# Altium footprint library 618 0xx 325 223.PcbLib: 4 footprints
Each footprint in its own frame and in the unit in brackets; x right, y up, seen from the top. Pads: shape width x height; smd on the part's side, far side on the other; paste and mask are expansions set on the pad; w line width, h text height; cw(c..) or ccw(c..) is an arc to the next point about the centre after c.
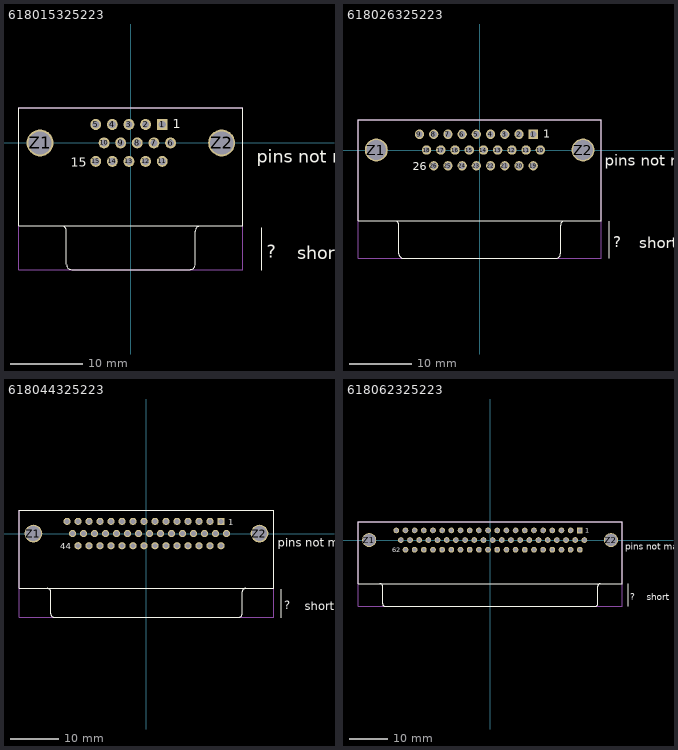
[diagram p0: the footprints below, top view; thin cyan lines are the x and y axes]

## 618015325223 [mm] "15 pins, right angled with Rivet"
height 12.5
pads (17):
  rect 1.5x1.5 hole 1: 1(4.32,2.54)
  round 1.5 hole 1: 2(2.03,2.54) 3(-0.26,2.54) 4(-2.55,2.54) 5(-4.84,2.54) 6(5.465,0) 7(3.175,0) 8(0.885,0) 9(-1.405,0) 10(-3.695,0) 11(4.32,-2.54) 12(2.03,-2.54) 13(-0.26,-2.54) 14(-2.55,-2.54) 15(-4.84,-2.54)
  round 3.7 hole 3.2: Z1(-12.5,0) Z2(12.5,0)
Top Overlay:
  lines w0.127: -9.56,-11.435 cw(c-9.56,-12.13) -8.865,-12.13 -8.865,-16.73 ; -8.86,-16.735 ccw(c-8.165,-16.735) -8.165,-17.43 8.165,-17.43 ccw(c8.165,-16.735) 8.86,-16.735 ; 8.865,-16.73 8.865,-12.13 cw(c9.56,-12.13) 9.56,-11.435 ; 18.025,-17.55 18.025,-11.65 ; -15.4,-11.43 -15.4,4.87 15.4,4.87 15.4,-11.43 ; -15.4,-11.43 15.4,-11.43 ; -15.4,-11.43 15.4,-11.43
  text "short" at 22.9,-16.625 h3
  text "?" at 18.675,-16.425 h3
  text "pins not match" at 17.325,-3.325 h3
  text "1" at 5.75,2 h1.27
  text "15" at -8.25,-3.25 h1.27
Mechanical 13:
  lines w0.127: -15.4,-17.43 15.4,-17.43 15.4,-11.43 15.4,4.87 -15.4,4.87 -15.4,-11.43 -15.4,-17.43
3D body: height 12.51, standoff -3.79, extent -15.4,-17.03 15.4,4.87

## 618026325223 [mm] "26 pins, right angled with Rivet"
height 12.5
pads (28):
  rect 1.5x1.5 hole 1: 1(8.625,2.54)
  round 1.5 hole 1: 2(6.335,2.54) 3(4.045,2.54) 4(1.755,2.54) 5(-0.535,2.54) 6(-2.825,2.54) 7(-5.115,2.54) 8(-7.405,2.54) 9(-9.695,2.54) 10(9.77,0) 11(7.48,0) 12(5.19,0) 13(2.9,0) 14(0.61,0) 15(-1.68,0) 16(-3.97,0) 17(-6.26,0) 18(-8.55,0) 19(8.625,-2.54) 20(6.335,-2.54) 21(4.045,-2.54) 22(1.755,-2.54) 23(-0.535,-2.54) 24(-2.825,-2.54) 25(-5.115,-2.54) 26(-7.405,-2.54)
  round 3.7 hole 3.2: Z1(-16.65,0) Z2(16.65,0)
Top Overlay:
  lines w0.127: -13.715,-11.435 cw(c-13.715,-12.13) -13.02,-12.13 -13.02,-16.73 ; -13.015,-16.735 ccw(c-12.32,-16.735) -12.32,-17.43 12.32,-17.43 ccw(c12.32,-16.735) 13.015,-16.735 ; 13.02,-16.73 13.02,-12.13 cw(c13.715,-12.13) 13.715,-11.435 ; 20.85,-17.4 20.85,-11.5 ; -19.6,-11.43 19.6,-11.43 ; -19.6,-11.43 -19.6,4.87 19.6,4.87 19.6,-11.43 ; -19.6,-11.43 19.6,-11.43
  text "short" at 25.725,-16.475 h3
  text "?" at 21.5,-16.275 h3
  text "pins not match" at 20.15,-3.175 h3
  text "1" at 10.25,2 h1.27
  text "26" at -10.75,-3.25 h1.27
Mechanical 13:
  lines w0.127: -19.6,-17.43 19.6,-17.43 19.6,-11.43 19.6,4.87 -19.6,4.87 -19.6,-11.43 -19.6,-17.43
3D body: height 12.51, standoff -3.79, extent -19.6,-17.03 19.6,4.87

## 618044325223 [mm] "44 pins, right angled with Rivet"
height 12.5
pads (46):
  rect 1.5x1.5 hole 1: 1(15.525,2.54)
  round 1.5 hole 1: 2(13.235,2.54) 3(10.945,2.54) 4(8.655,2.54) 5(6.365,2.54) 6(4.075,2.54) 7(1.785,2.54) 8(-0.505,2.54) 9(-2.795,2.54) 10(-5.085,2.54) 11(-7.375,2.54) 12(-9.665,2.54) 13(-11.955,2.54) 14(-14.245,2.54) 15(-16.535,2.54) 16(16.67,0) 17(14.38,0) 18(12.09,0) 19(9.8,0) 20(7.51,0) 21(5.22,0) 22(2.93,0) 23(0.64,0) 24(-1.65,0) 25(-3.94,0) 26(-6.23,0) 27(-8.52,0) 28(-10.81,0) 29(-13.1,0) 30(-15.39,0) 31(15.525,-2.54) 32(13.235,-2.54) 33(10.945,-2.54) 34(8.655,-2.54) 35(6.365,-2.54) 36(4.075,-2.54) 37(1.785,-2.54) 38(-0.505,-2.54) 39(-2.795,-2.54) 40(-5.085,-2.54) 41(-7.375,-2.54) 42(-9.665,-2.54) 43(-11.955,-2.54) 44(-14.245,-2.54)
  round 3.7 hole 3.2: Z1(-23.55,0) Z2(23.55,0)
Top Overlay:
  lines w0.127: -20.64,-11.435 cw(c-20.64,-12.13) -19.945,-12.13 -19.945,-16.73 ; -19.94,-16.735 ccw(c-19.245,-16.735) -19.245,-17.43 19.245,-17.43 ccw(c19.245,-16.735) 19.94,-16.735 ; 19.945,-16.73 19.945,-12.13 cw(c20.64,-12.13) 20.64,-11.435 ; 28.075,-17.55 28.075,-11.65 ; -26.55,-11.43 -26.55,4.87 26.55,4.87 26.55,-11.43 ; -26.55,-11.43 26.55,-11.43 ; -26.55,-11.43 26.55,-11.43
  text "short" at 32.95,-16.625 h3
  text "?" at 28.725,-16.425 h3
  text "pins not match" at 27.375,-3.325 h3
  text "1" at 17,1.75 h1.27
  text "44" at -18,-3.25 h1.27
Mechanical 13:
  lines w0.127: -26.55,-17.43 26.55,-17.43 26.55,-11.43 26.55,4.87 -26.55,4.87 -26.55,-11.43 -26.55,-17.43
3D body: height 12.51, standoff -3.79, extent -26.55,-17.03 26.55,4.87

## 618062325223 [mm] "62 pins, right angled with Rivet"
height 12.5
pads (64):
  rect 1.5x1.5 hole 1: 1(23.55,2.54)
  round 1.5 hole 1: 2(21.14,2.54) 3(18.73,2.54) 4(16.32,2.54) 5(13.91,2.54) 6(11.5,2.54) 7(9.09,2.54) 8(6.68,2.54) 9(4.27,2.54) 10(1.86,2.54) 11(-0.55,2.54) 12(-2.96,2.54) 13(-5.37,2.54) 14(-7.78,2.54) 15(-10.19,2.54) 16(-12.6,2.54) 17(-15.01,2.54) 18(-17.42,2.54) 19(-19.83,2.54) 20(-22.24,2.54) 21(-24.65,2.54) 22(24.75,0) 23(22.34,0) 24(19.93,0) 25(17.52,0) 26(15.11,0) 27(12.7,0) 28(10.29,0) 29(7.88,0) 30(5.47,0) 31(3.06,0) 32(0.65,0) 33(-1.76,0) 34(-4.17,0) 35(-6.58,0) 36(-8.99,0) 37(-11.4,0) 38(-13.81,0) 39(-16.22,0) 40(-18.63,0) 41(-21.04,0) 42(-23.44,0) 43(23.55,-2.54) 44(21.14,-2.54) 45(18.73,-2.54) 46(16.32,-2.54) 47(13.91,-2.54) 48(11.5,-2.54) 49(9.09,-2.54) 50(6.68,-2.54) 51(4.27,-2.54) 52(1.86,-2.54) 53(-0.55,-2.54) 54(-2.96,-2.54) 55(-5.37,-2.54) 56(-7.78,-2.54) 57(-10.19,-2.54) 58(-12.6,-2.54) 59(-15.01,-2.54) 60(-17.42,-2.54) 61(-19.83,-2.54) 62(-22.24,-2.54)
  round 3.7 hole 3.2: Z1(-31.75,0) Z2(31.75,0)
Top Overlay:
  lines w0.127: -28.95,-11.435 cw(c-28.95,-12.13) -28.255,-12.13 -28.255,-16.73 ; -28.25,-16.735 ccw(c-27.555,-16.735) -27.555,-17.43 27.555,-17.43 ccw(c27.555,-16.735) 28.25,-16.735 ; 28.255,-16.73 28.255,-12.13 cw(c28.95,-12.13) 28.95,-11.435 ; 36.2,-17.425 36.2,-11.525 ; -34.7,-11.43 34.7,-11.43 34.7,4.87 -34.7,4.87 -34.7,-11.43
  text "62" at -25.75,-3.25 h1.27
  text "1" at 24.925,1.925 h1.27
  text "pins not match" at 35.5,-3.2 h3
  text "?" at 36.85,-16.3 h3
  text "short" at 41.075,-16.5 h3
Mechanical 13:
  lines w0.127: -34.7,-17.43 34.7,-17.43 34.7,4.87 -34.7,4.87 -34.7,-17.43
3D body: height 12.51, standoff -3.79, extent -34.7,-17.03 34.7,4.87